# Altium footprint library vod.PcbLib: 41 footprints (part 2 of 3)
Each footprint in its own frame and in the unit in brackets; x right, y up, seen from the top. Pads: shape width x height; smd on the part's side, far side on the other; paste and mask are expansions set on the pad; w line width, h text height; cw(c..) or ccw(c..) is an arc to the next point about the centre after c.
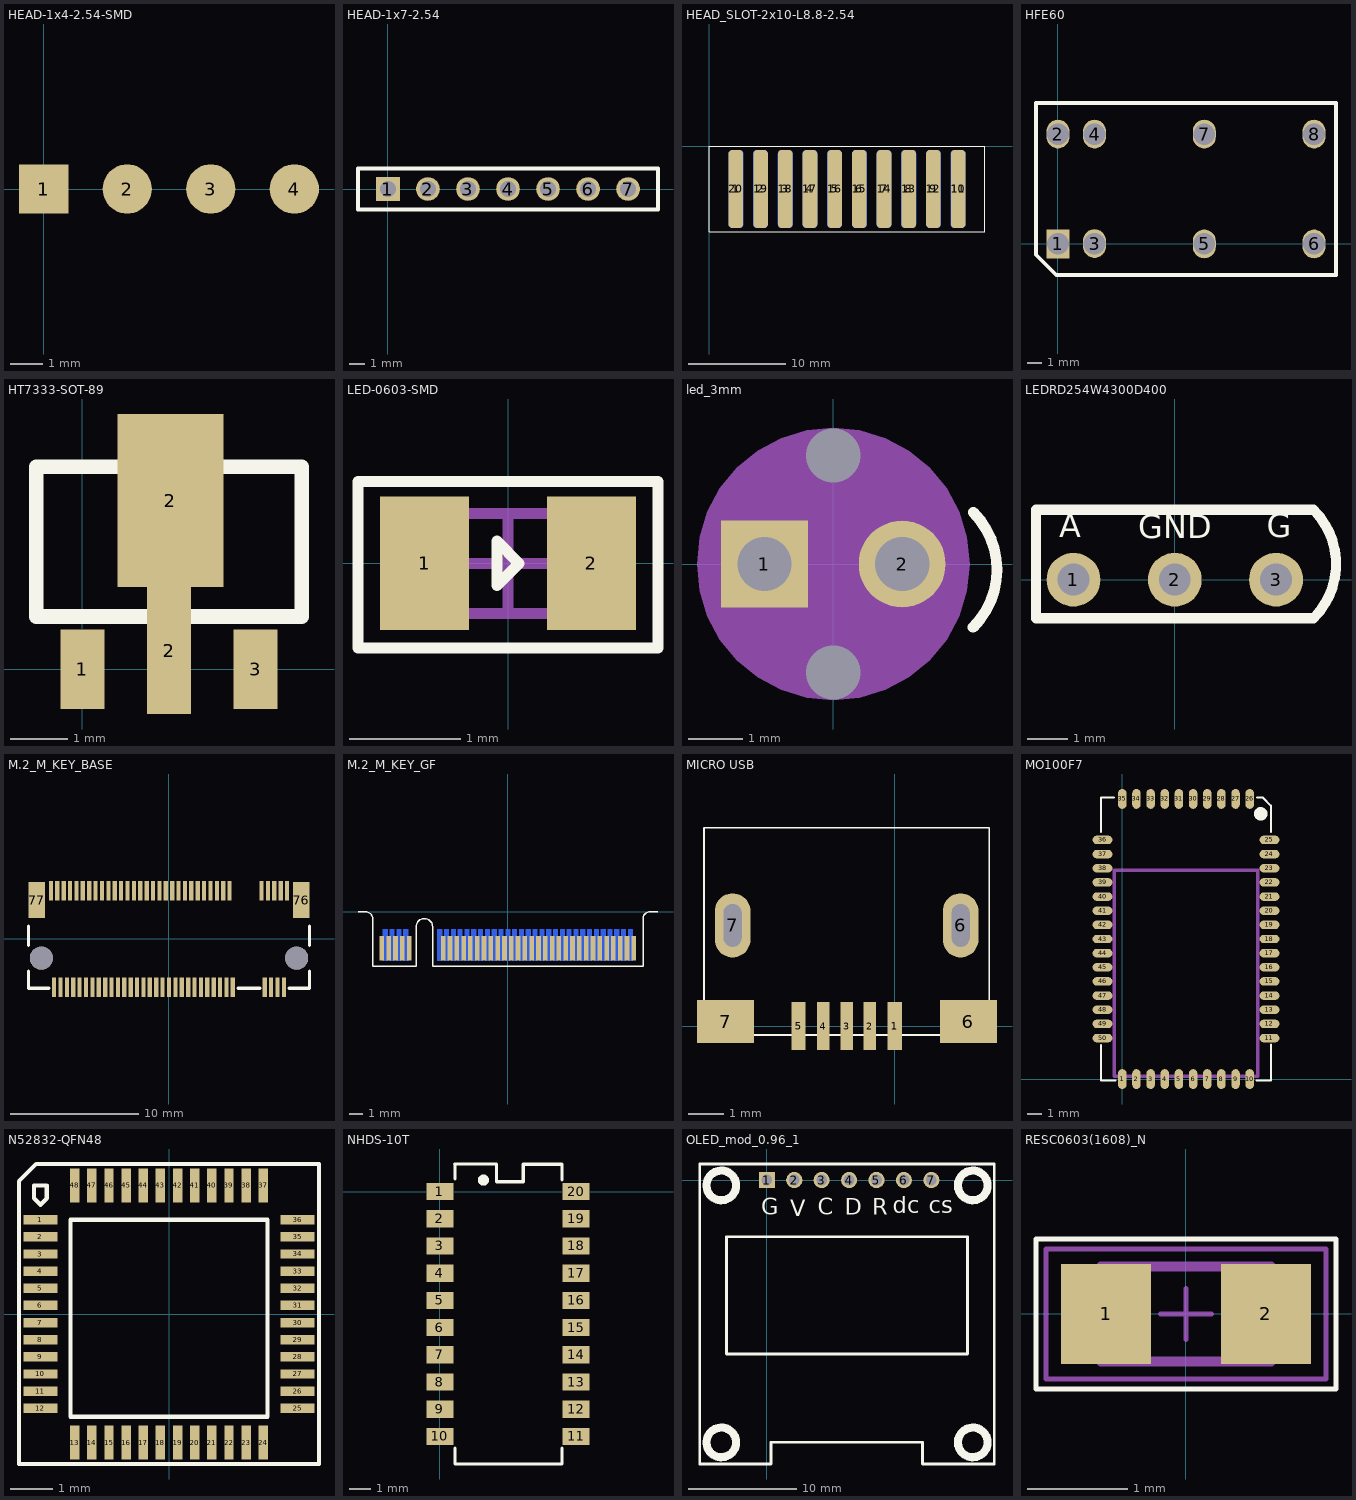
[diagram p1: the footprints below, top view; thin cyan lines are the x and y axes]

## HEAD-1x4-2.54-SMD [mm]
pads (4):
  rect 1.5x1.5 smd: 1(0,0)
  round 1.5 smd: 2(2.54,0) 3(5.08,0) 4(7.62,0)

## HEAD-1x7-2.54 [mm]
pads (7):
  rect 1.5x1.5 hole 1: 1(0,0)
  round 1.5 hole 1: 2(2.54,0) 3(5.08,0) 4(7.62,0) 5(10.16,0) 6(12.7,0) 7(15.24,0)
Top Overlay:
  lines w0.254: -1.9,-1.3 17.14,-1.3 17.14,1.3 -1.9,1.3 -1.9,-1.3

## HEAD_SLOT-2x10-L8.8-2.54 [mm]
pads (20):
  rrect50% 1.5x8 smd: 1(2.72,-4.4) 2(5.26,-4.4) 3(7.8,-4.4) 4(10.34,-4.4) 5(12.88,-4.4) 6(15.42,-4.4) 7(17.96,-4.4) 8(20.5,-4.4) 9(23.04,-4.4) 10(25.58,-4.4)
  rrect50% 1.5x8 smd far side: 11(25.58,-4.4) 12(23.04,-4.4) 13(20.5,-4.4) 14(17.96,-4.4) 15(15.42,-4.4) 16(12.88,-4.4) 17(10.34,-4.4) 18(7.8,-4.4) 19(5.26,-4.4) 20(2.72,-4.4)
Top Overlay:
  lines w0.1: 0,-8.8 28.3,-8.8 28.3,0 0,0 0,-8.8

## HFE60 [mm]
pads (8):
  rect 1.6x2 hole 1.5: 1(0,0)
  oval 1.6x2 hole 1.5: 2(0,7.62) 3(2.54,0.02) 4(2.54,7.62) 5(10.16,0) 6(17.78,0) 7(10.16,7.62) 8(17.78,7.62)
Top Overlay:
  lines w0.254: -1.524,-0.762 -1.524,9.779 19.304,9.779 19.304,-2.159 -0.127,-2.159 -1.524,-0.762

## HT7333-SOT-89 [mil]
pads (4):
  rect 30x54 smd: 1(0,0) 3(118,0)
  rect 30x86.61 smd: 2(59,12.76)
  rect 72x118.11 smd: 2(60,115)
Top Overlay:
  lines w10: -31.5,36 -31.5,138 149.5,138 149.5,36 -31.5,36

## LED-0603-SMD [mm]
pads (2):
  rect 0.8x1.2 smd: 1(-0.75,0) 2(0.75,0)
Top Overlay:
  lines w0.1: -1.35,-0.762 -1.35,0.737 1.35,0.737 1.35,-0.762 1.143,-0.762 -1.35,-0.762 ; -0.1,-0.2 0.1,0 -0.1,0.2 -0.1,-0.2
Mechanical 13:
  lines w0.1: -0.85,-0.45 0.85,-0.45 0.85,0.45 -0.85,0.45 -0.85,-0.45
Mechanical 15:
  lines w0.05: -1.35,-0.75 1.35,-0.75 1.35,0.75 -1.35,0.75 -1.35,-0.75
  lines w0.1: -0.45,0 0.45,0 ; 0,-0.45 0,0.45
3D body: height 0.89, standoff 0, extent 0.5,-0.45 0.85,0.45
3D body: height 0.89, standoff 0, extent -0.85,-0.45 -0.5,0.45
3D body: height 0.89, standoff 0, extent -0.5,-0.45 0.5,0.45

## led_3mm [mm] "LED_3MM"
pads (4):
  rect 1.6x1.6 / inner round 1.524 / far side rect 1.6x1.6 hole 1: 1(-1.27,0)
  round 1.6 / inner round 1.524 / far side round 1.6 hole 1: 2(1.27,0)
  round 0.1 / inner round 1.524 / far side round 0.1 hole 1 unplated: " "(0,2) " "(0,-2)
Top Overlay:
  lines w0.2: 2.579,-1.166 ccw(c1.52,-0.106) 2.58,0.953
Mechanical 7:
  pour cut-out: 1.776,-1.776 2.089,-1.396 2.321,-0.961 2.464,-0.49 2.512,0 2.464,0.49 2.321,0.961 2.089,1.396 1.776,1.776 1.396,2.089 0.961,2.321 0.49,2.464 0,2.512 -0.49,2.464 -0.961,2.321 -1.396,2.089 -1.776,1.776 -2.089,1.396 -2.321,0.961 -2.464,0.49 -2.512,0 -2.464,-0.49 -2.321,-0.961 -2.089,-1.396 -1.776,-1.776 -1.396,-2.089 -0.961,-2.321 -0.49,-2.464 0,-2.512 0.49,-2.464 0.961,-2.321 1.396,-2.089
Mechanical 11:
  circle w0.2: c0,0 r1.5
3D body: height 3.81, standoff 0, extent -2.512,-2.512 2.512,2.512

## LEDRD254W4300D400 [mm] "LEDRD254W4300D400"
pads (3):
  round 1.35 / inner round 1.524 / far side round 1.35 hole 0.8: 1(-2.54,0) 2(0,0) 3(2.54,0)
Top Overlay:
  lines w0.254: -3.48,-0.965 3.48,-0.965 ccw(c2.121,0.394) 3.48,1.753 -3.48,1.753 -3.48,-0.965
  text "A" at -2.896,0.864 h1
  text "G" at 2.311,0.864 h1
  text "GND" at -0.914,0.838 h1
3D body: height 6.54, standoff -4.46, extent -2.79,-2 2.79,2

## M.2_M_KEY_BASE [mm]
pads (71):
  rect 0.33x1.55 smd: 1(-9.25,3.775) 2(-9,-3.775) 3(-8.75,3.775) 4(-8.5,-3.775) 5(-8.25,3.775) 6(-8,-3.775) 7(-7.75,3.775) 8(-7.5,-3.775) 9(-7.25,3.775) 10(-7,-3.775) 11(-6.75,3.775) 12(-6.5,-3.775) 13(-6.25,3.775) 14(-6,-3.775) 15(-5.75,3.775) 16(-5.5,-3.775) 17(-5.25,3.775) 18(-5,-3.775) 19(-4.75,3.775) 20(-4.5,-3.775) 21(-4.25,3.775) 22(-4,-3.775) 23(-3.75,3.775) 24(-3.5,-3.775) 25(-3.25,3.775) 26(-3,-3.775) 27(-2.75,3.775) 28(-2.5,-3.775) 29(-2.25,3.775) 30(-2,-3.775) 31(-1.75,3.775) 32(-1.5,-3.775) 33(-1.25,3.775) 34(-1,-3.775) 35(-0.75,3.775) 36(-0.5,-3.775) 37(-0.25,3.775) 38(0,-3.775) 39(0.25,3.775) 40(0.5,-3.775) 41(0.75,3.775) 42(1,-3.775) 43(1.25,3.775) 44(1.5,-3.775) 45(1.75,3.775) 46(2,-3.775) 47(2.25,3.775) 48(2.5,-3.775) 49(2.75,3.775) 50(3,-3.775) 51(3.25,3.775) 52(3.5,-3.775) 53(3.75,3.775) 54(4,-3.775) 55(4.25,3.775) 56(4.5,-3.775) 57(4.75,3.775) 58(5,-3.775) 67(7.25,3.775) 68(7.5,-3.775) 69(7.75,3.775) 70(8,-3.775) 71(8.25,3.775) 72(8.5,-3.775) 73(8.75,3.775) 74(9,-3.775) 75(9.25,3.775)
  rect 1.3x2.8 smd: 76(10.35,3.05) 77(-10.35,3.05)
  round 1.8 hole 1.8 unplated: ""(-10,-1.5) ""(10,-1.5)
Top Overlay:
  lines w0.254: -11,-2.5 -11,-3.85 -9.396,-3.85 ; -11,-0.5 -11,1 ; 5.396,-3.85 7.104,-3.85 ; 9.396,-3.85 11,-3.85 11,-2.5 ; 11,-0.5 11,1

## M.2_M_KEY_GF [mm]
pads (67):
  rect 0.34x1.8 smd: 1(9.25,-2.694) 3(8.75,-2.694) 5(8.25,-2.694) 7(7.75,-2.694) 9(7.25,-2.694) 11(6.75,-2.694) 13(6.25,-2.694) 15(5.75,-2.694) 17(5.25,-2.694) 19(4.75,-2.694) 21(4.25,-2.694) 23(3.75,-2.694) 25(3.25,-2.694) 27(2.75,-2.694) 29(2.25,-2.694) 31(1.75,-2.694) 33(1.25,-2.694) 35(0.75,-2.694) 37(0.25,-2.694) 39(-0.25,-2.694) 41(-0.75,-2.694) 43(-1.25,-2.694) 45(-1.75,-2.694) 47(-2.25,-2.694) 49(-2.75,-2.694) 51(-3.25,-2.694) 53(-3.75,-2.694) 55(-4.25,-2.694) 57(-4.75,-2.694) 67(-7.25,-2.694) 69(-7.75,-2.694) 71(-8.25,-2.694) 73(-8.75,-2.694) 75(-9.25,-2.694)
  rect 0.34x2.3 smd far side: 2(9,-2.44) 4(8.5,-2.44) 6(8,-2.44) 8(7.5,-2.44) 10(7,-2.44) 12(6.5,-2.44) 14(6,-2.44) 16(5.5,-2.44) 18(5,-2.44) 20(4.5,-2.44) 22(4,-2.44) 24(3.5,-2.44) 26(3,-2.44) 28(2.5,-2.44) 30(2,-2.44) 32(1.5,-2.44) 34(1,-2.44) 36(0.5,-2.44) 38(0,-2.44) 40(-0.5,-2.44) 42(-1,-2.44) 44(-1.5,-2.44) 46(-2,-2.44) 48(-2.5,-2.44) 50(-3,-2.44) 52(-3.5,-2.44) 54(-4,-2.44) 56(-4.5,-2.44) 58(-5,-2.44) 68(-7.5,-2.44) 70(-8,-2.44) 72(-8.5,-2.44) 74(-9,-2.44)
Top Overlay:
  lines w0.1: -10.976,0 -10.425,0 cw(c-10.425,-0.5) -9.925,-0.5 -9.925,-4 ; -9.924,-4 -6.726,-4 ; -6.725,-4 -6.725,-1.1 cw(c-6.125,-1.1) -5.525,-1.1 -5.525,-4 ; -5.522,-4 9.926,-4 ; 9.925,-4 9.925,-0.5 cw(c10.425,-0.5) 10.425,0 11.024,0
Bottom Overlay:
  lines w0.1: -11.002,0 -10.451,0 cw(c-10.451,-0.5) -9.951,-0.5 -9.951,-4 ; -9.95,-4 -6.752,-4 ; -6.751,-4 -6.751,-1.1 cw(c-6.151,-1.1) -5.551,-1.1 -5.551,-4 ; -5.548,-4 9.9,-4 ; 9.899,-4 9.899,-0.5 cw(c10.399,-0.5) 10.399,0 10.998,0

## MICRO USB [mm]
pads (9):
  rect 0.4x1.35 smd: 1(0,0) 5(-2.7,0)
  rect 0.35x1.35 smd: 2(-0.7,0) 3(-1.35,0) 4(-2,0)
  oval 1x1.8 hole 0.5 slot 1.2 at 90 deg: 6(1.85,2.827) 7(-4.55,2.827)
  rect 1.6x1.2 smd: 6(2.07,0.127) 7(-4.749,0.127)
Top Overlay:
  lines w0.05: -5.35,-0.246 -5.35,5.564 2.65,5.564 2.65,-0.246 -5.35,-0.246
3D body: height 2.77, standoff -0.66, extent -5.35,-0.256 2.65,5.564

## MO100F7 [mm]
pads (50):
  oval 0.6x1.4 smd mask+0.06: 1(0,0) 2(1,0) 3(2,0) 4(3,0) 5(4,0) 6(5,0) 7(6,0) 8(7,0) 9(8,0) 10(9,0) 26(9,19.8) 27(8,19.8) 28(7,19.8) 29(6,19.8) 30(5,19.8) 31(4,19.8) 32(3,19.8) 33(2,19.8) 34(1,19.8) 35(0,19.8)
  oval 1.4x0.6 smd mask+0.06: 11(10.4,2.9) 12(10.4,3.9) 13(10.4,4.9) 14(10.4,5.9) 15(10.4,6.9) 16(10.4,7.9) 17(10.4,8.9) 18(10.4,9.9) 19(10.4,10.9) 20(10.4,11.9) 21(10.4,12.9) 22(10.4,13.9) 23(10.4,14.9) 24(10.4,15.9) 25(10.4,16.9) 36(-1.4,16.9) 37(-1.4,15.9) 38(-1.4,14.9) 39(-1.4,13.9) 40(-1.4,12.9) 41(-1.4,11.9) 42(-1.4,10.9) 43(-1.4,9.9) 44(-1.4,8.9) 45(-1.4,7.9) 46(-1.4,6.9) 47(-1.4,5.9) 48(-1.4,4.9) 49(-1.4,3.9) 50(-1.4,2.9)
Top Overlay:
  circle w0.5: c9.779,18.745 r0.227
  lines w0.15: -1.5,2.4 -1.5,-0.1 -0.49,-0.1 ; -1.5,17.46 -1.5,19.9 -0.59,19.9 ; -1.02,-0.1 -0.77,-0.1 ; 9.49,-0.1 10.5,-0.1 10.5,2.43 ; 9.51,19.9 9.92,19.9 10.5,19.32 10.5,17.45
Mechanical 5:
  lines w0.254: -0.574,0.198 9.576,0.198 9.576,14.748 -0.574,14.748 -0.574,0.198
3D body: height 0.6, standoff 0, extent -1.524,-0.127 10.541,19.936
3D body: height 2.05, standoff 0.6, extent -0.574,0.152 9.576,14.748

## N52832-QFN48 [mm]
pads (48):
  rect 0.8x0.22 smd: 1(-3,2.2) 2(-3,1.8) 3(-3,1.4) 4(-3,1) 5(-3,0.6) 6(-3,0.2) 7(-3,-0.2) 8(-3,-0.6) 9(-3,-1) 10(-3,-1.4) 11(-3,-1.8) 12(-3,-2.2) 25(3,-2.2) 26(3,-1.8) 27(3,-1.4) 28(3,-1) 29(3,-0.6) 30(3,-0.2) 31(3,0.2) 32(3,0.6) 33(3,1) 34(3,1.4) 35(3,1.8) 36(3,2.2)
  rect 0.22x0.8 smd: 13(-2.2,-3) 14(-1.8,-3) 15(-1.4,-3) 16(-1,-3) 17(-0.6,-3) 18(-0.2,-3) 19(0.2,-3) 20(0.6,-3) 21(1,-3) 22(1.4,-3) 23(1.8,-3) 24(2.2,-3) 37(2.2,3) 38(1.8,3) 39(1.4,3) 40(1,3) 41(0.6,3) 42(0.2,3) 43(-0.2,3) 44(-0.6,3) 45(-1,3) 46(-1.4,3) 47(-1.8,3) 48(-2.2,3)
Top Overlay:
  lines w0.1: -3.5,-3.5 -3.5,3.1 -3.1,3.5 3.5,3.5 3.5,-3.5 -3.5,-3.5 ; -3.15,2.7 -3,2.55 -2.85,2.7 -2.85,3 -3.15,3 -3.15,2.7 ; -2.3,-2.4 2.3,-2.4 2.3,2.2 -2.3,2.2 -2.3,-2.4

## NHDS-10T [mm]
pads (20):
  rect 1.25x0.8 smd: 1(0,0) 2(0,-1.27) 3(0,-2.54) 4(0,-3.81) 5(0,-5.08) 6(0,-6.35) 7(0,-7.62) 8(0,-8.89) 9(0,-10.16) 10(0,-11.43) 11(6.35,-11.43) 12(6.35,-10.16) 13(6.35,-8.89) 14(6.35,-7.62) 15(6.35,-6.35) 16(6.35,-5.08) 17(6.35,-3.81) 18(6.35,-2.54) 19(6.35,-1.27) 20(6.35,0)
Top Overlay:
  circle w0.3: c2.025,0.533 r0.108
  lines w0.152: 0.69,1.285 2.6,1.285 ; 0.7,-11.963 0.7,-12.715 5.7,-12.715 5.7,-11.963 ; 0.7,0.587 0.7,1.285 ; 2.641,1.27 2.641,0.457 3.886,0.457 3.886,1.27 5.7,1.27 5.7,0.556

## OLED_mod_0.96_1 [mm]
pads (7):
  rect 1.5x1.5 hole 1: 1(0,0)
  round 1.5 hole 1: 2(2.54,0) 3(5.08,0) 4(7.62,0) 5(10.16,0) 6(12.7,0) 7(15.24,0)
Top Overlay:
  circle w0.75: c19.082,-0.5 r1.375
  circle w0.75: c-4.223,-0.5 r1.375
  circle w0.75: c19.082,-24.313 r1.375
  circle w0.75: c-4.223,-24.313 r1.375
  lines w0.254: -6.223,-26.313 -6.223,1.487 21.077,1.487 21.077,-26.313 14.427,-26.313 14.427,-24.289 0.381,-24.289 0.381,-26.313 -6.223,-26.313 ; -3.745,-16.121 -3.745,-5.257 18.599,-5.257 18.599,-16.121 -3.745,-16.121
  text "G" at -0.513,-3.212 h1.52
  text "V" at 2.154,-3.339 h1.52
  text "C" at 4.694,-3.212 h1.52
  text "D" at 7.234,-3.212 h1.52
  text "R" at 9.774,-3.212 h1.52
  text "dc" at 11.679,-3.085 h1.52
  text "cs" at 14.981,-3.085 h1.52

## RESC0603(1608)_N [mm] "Chip Resistor, Body 1.6x0.8mm, IPC Medium Density"
height 0.6
pads (2):
  rect 0.9x1 smd: 1(-0.8,0) 2(0.8,0)
Top Overlay:
  lines w0.05: -1.5,-0.75 -1.5,0.75 1.5,0.75 1.5,-0.75 -1.5,-0.75
Mechanical 13:
  lines w0.1: -0.85,-0.475 -0.85,0.475 0.85,0.475 0.85,-0.475 -0.85,-0.475
Mechanical 15:
  lines w0.05: -0.254,0 0.254,0 ; 0,-0.254 0,0.254 ; -1.4,-0.65 1.4,-0.65 1.4,0.65 -1.4,0.65 -1.4,-0.65
3D body: height 0.6, standoff 0, extent 0.581,-0.474 0.85,0.475
3D body: height 0.6, standoff 0, extent -0.58,-0.474 0.581,0.475
3D body: height 0.6, standoff 0, extent -0.849,-0.474 -0.58,0.475